# EAGLE library part IC_STM32F042K6T6 (library X16-Pi-Shield)
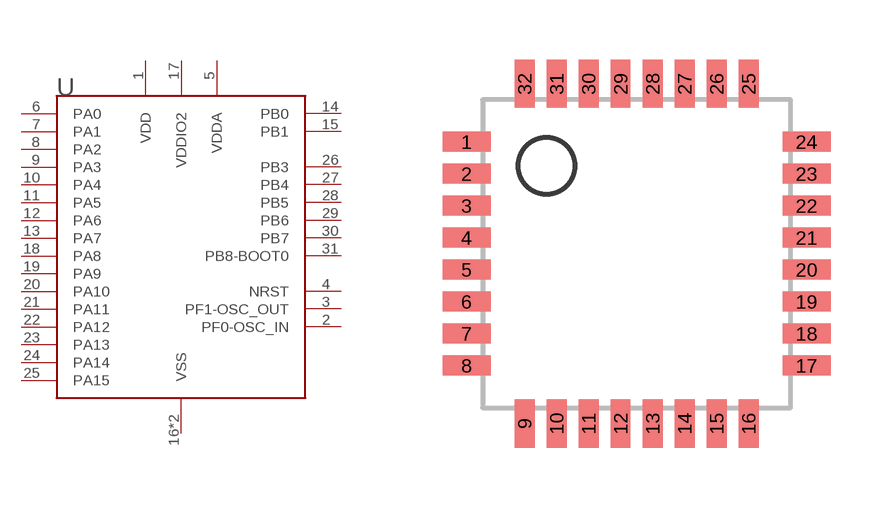
[diagram p0: symbol with the pads of LQFP32; footprint LQFP32]

Designator prefix -

## IC_STM32F042K6T6  [LQFP32]
1  VDD
2  PF0-OSC_IN
3  PF1-OSC_OUT
4  NRST
5  VDDA
6  PA0
7  PA1
8  PA2
9  PA3
10  PA4
11  PA5
12  PA6
13  PA7
14  PB0
15  PB1
16  VSS
17  VDDIO2
18  PA8
19  PA9
20  PA10
21  PA11
22  PA12
23  PA13
24  PA14
25  PA15
26  PB3
27  PB4
28  PB5
29  PB6
30  PB7
31  PB8-BOOT0
32  VSS

## Footprint LQFP32 (pad centres in mm)
smd 1.2 x 0.5: 1 0,5.6; 2 0,4.8; 3 0,4; 4 0,3.2; 5 0,2.4; 6 0,1.6; 7 0,0.8; 8 0,0; 17 8.5,0; 18 8.5,0.8; 19 8.5,1.6; 20 8.5,2.4; 21 8.5,3.2; 22 8.5,4; 23 8.5,4.8; 24 8.5,5.6
smd 0.5 x 1.2: 9 1.45,-1.45; 10 2.25,-1.45; 11 3.05,-1.45; 12 3.85,-1.45; 13 4.65,-1.45; 14 5.45,-1.45; 15 6.25,-1.45; 16 7.05,-1.45; 25 7.05,7.05; 26 6.25,7.05; 27 5.45,7.05; 28 4.65,7.05; 29 3.85,7.05; 30 3.05,7.05; 31 2.25,7.05; 32 1.45,7.05